# Altium schematic symbol library STM32L051T8Y6TR.SchLib: 1 symbol
Pins are listed as number, name and electrical type; pins without a type are passive.

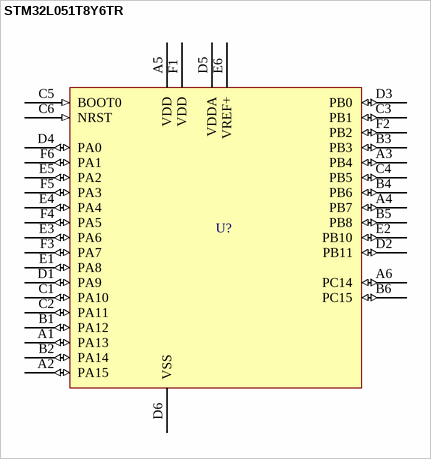
[diagram p0: symbol STM32L051T8Y6TR]

## STM32L051T8Y6TR
designator U?  (value not drawn)
Ultra-low-power Arm Cortex-M0+ MCU with 64 Kbytes of Flash memory, 32 MHz CPU
pins: A1 PA13 (io), A2 PA15 (io), A3 PB4 (io), A4 PB7 (io), A5 VDD (power), A6 PC14 (io), B1 PA12 (io), B2 PA14 (io), B3 PB3 (io), B4 PB6 (io), B5 PB8 (io), B6 PC15 (io), C1 PA10 (io), C2 PA11 (io), C3 PB1 (io), C4 PB5 (io), C5 BOOT0 (in), C6 NRST (in), D1 PA9 (io), D2 PB11 (io), D3 PB0 (io), D4 PA0 (io), D5 VDDA (power), D6 VSS (power), E1 PA8 (io), E2 PB10 (io), E3 PA6 (io), E4 PA4 (io), E5 PA2 (io), E6 VREF+ (power), F1 VDD (power), F2 PB2 (io), F3 PA7 (io), F4 PA5 (io), F5 PA3 (io), F6 PA1 (io)